# EAGLE library part NODEMCU (library esp8266modules)
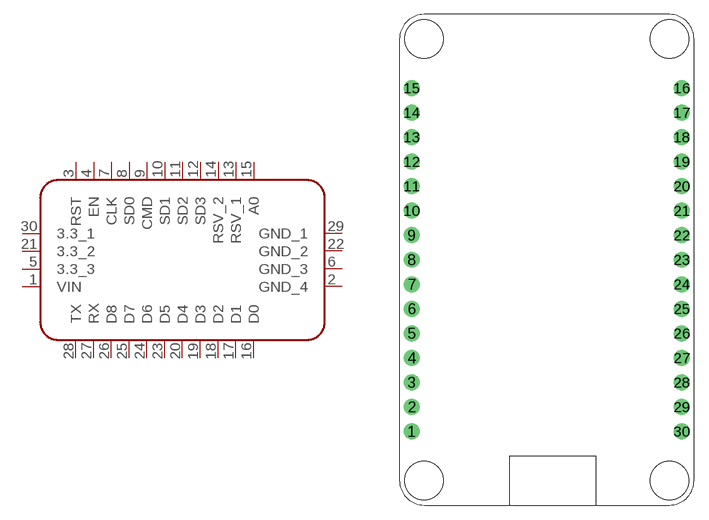
[diagram p15: symbol with the pads of NODEMCU; footprint NODEMCU]

Designator prefix -

## NODEMCU  [NODEMCU]
1  VIN  pwr
2  GND_4  pwr
3  RST
4  EN
5  3.3_3  pwr
6  GND_3  pwr
7  CLK
8  SD0
9  CMD
10  SD1
11  SD2
12  SD3
13  RSV_1  nc
14  RSV_2  nc
15  A0
16  D0
17  D1
18  D2
19  D3
20  D4
21  3.3_2  pwr
22  GND_2  pwr
23  D5
24  D6
25  D7
26  D8
27  RX
28  TX
29  GND_1  pwr
30  3.3_1  pwr

## Footprint NODEMCU (pad centres in mm)
drill 1.1: 1 -13.97,-17.78; 2 -13.97,-15.24; 3 -13.97,-12.7; 4 -13.97,-10.16; 5 -13.97,-7.62; 6 -13.97,-5.08; 7 -13.97,-2.54; 8 -13.97,0; 9 -13.97,2.54; 10 -13.97,5.08; 11 -13.97,7.62; 12 -13.97,10.16; 13 -13.97,12.7; 14 -13.97,15.24; 15 -13.97,17.78; 16 13.97,17.78; 17 13.97,15.24; 18 13.97,12.7; 19 13.97,10.16; 20 13.97,7.62; 21 13.97,5.08; 22 13.97,2.54; 23 13.97,0; 24 13.97,-2.54; 25 13.97,-5.08; 26 13.97,-7.62; 27 13.97,-10.16; 28 13.97,-12.7; 29 13.97,-15.24; 30 13.97,-17.78
hole 4 at -12.7,-22.86
hole 4 at 12.7,-22.86
hole 4 at -12.7,22.86
hole 4 at 12.7,22.86